# Altium footprint library Electromechanics.PcbLib: 2 footprints
Each footprint in its own frame and in the unit in brackets; x right, y up, seen from the top. Pads: shape width x height; smd on the part's side, far side on the other; paste and mask are expansions set on the pad; w line width, h text height; cw(c..) or ccw(c..) is an arc to the next point about the centre after c.
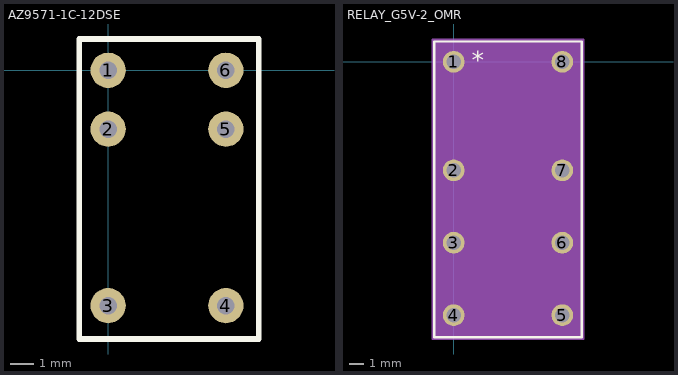
[diagram p0: the footprints below, top view; thin cyan lines are the x and y axes]

## AZ9571-1C-12DSE [mil]
pads (6):
  round 60 hole 30: 1(0,0) 2(0,-100) 3(0,-400) 4(200,-400) 5(200,-100) 6(200,0)
Top Overlay:
  lines w10: -49.21,-456.69 255.91,-456.69 255.91,53.15 -49.21,53.15 -49.21,-456.69
3D body "RELAY6_AZ9571-1C-12DSE_AMZ.step": height 405.98, standoff -320, extent -53.5,-452.05 253.5,51.97

## RELAY_G5V-2_OMR [mil]
pads (8):
  round 60 hole 40 mask+0: 1(0,0) 2(0,-300) 3(0,-500) 4(0,-700) 5(300,-700) 6(300,-500) 7(300,-300) 8(300,0)
Top Overlay:
  lines w6: -54,-761 354,-761 354,56 -54,56 -54,-761
  text "*" at 50,-20 h50
Mechanical 13:
  lines w0: 138,51 ccw(c150,51) 162,51
  lines w1: -49,-756 349,-756 349,51 -49,51 -49,-756
Mechanical 15:
  region: 359,-766 -59,-766 -59,61 359,61
  region: 349,-756 -49,-756 -49,51 349,51
  lines w6: -59,-766 -59,61 359,61 359,-766 -59,-766
3D body: height 10, standoff 0, extent 0,0 10,10
3D body "RELAY_G5V-2_OMR.step": height 453.11, standoff -100, extent -49.02,-755.98 349.01,50.99